# Altium footprint library 5A_BRULA,Tomas.PcbLib: 97 footprints (part 6 of 7)
Each footprint in its own frame and in the unit in brackets; x right, y up, seen from the top. Pads: shape width x height; smd on the part's side, far side on the other; paste and mask are expansions set on the pad; w line width, h text height; cw(c..) or ccw(c..) is an arc to the next point about the centre after c.
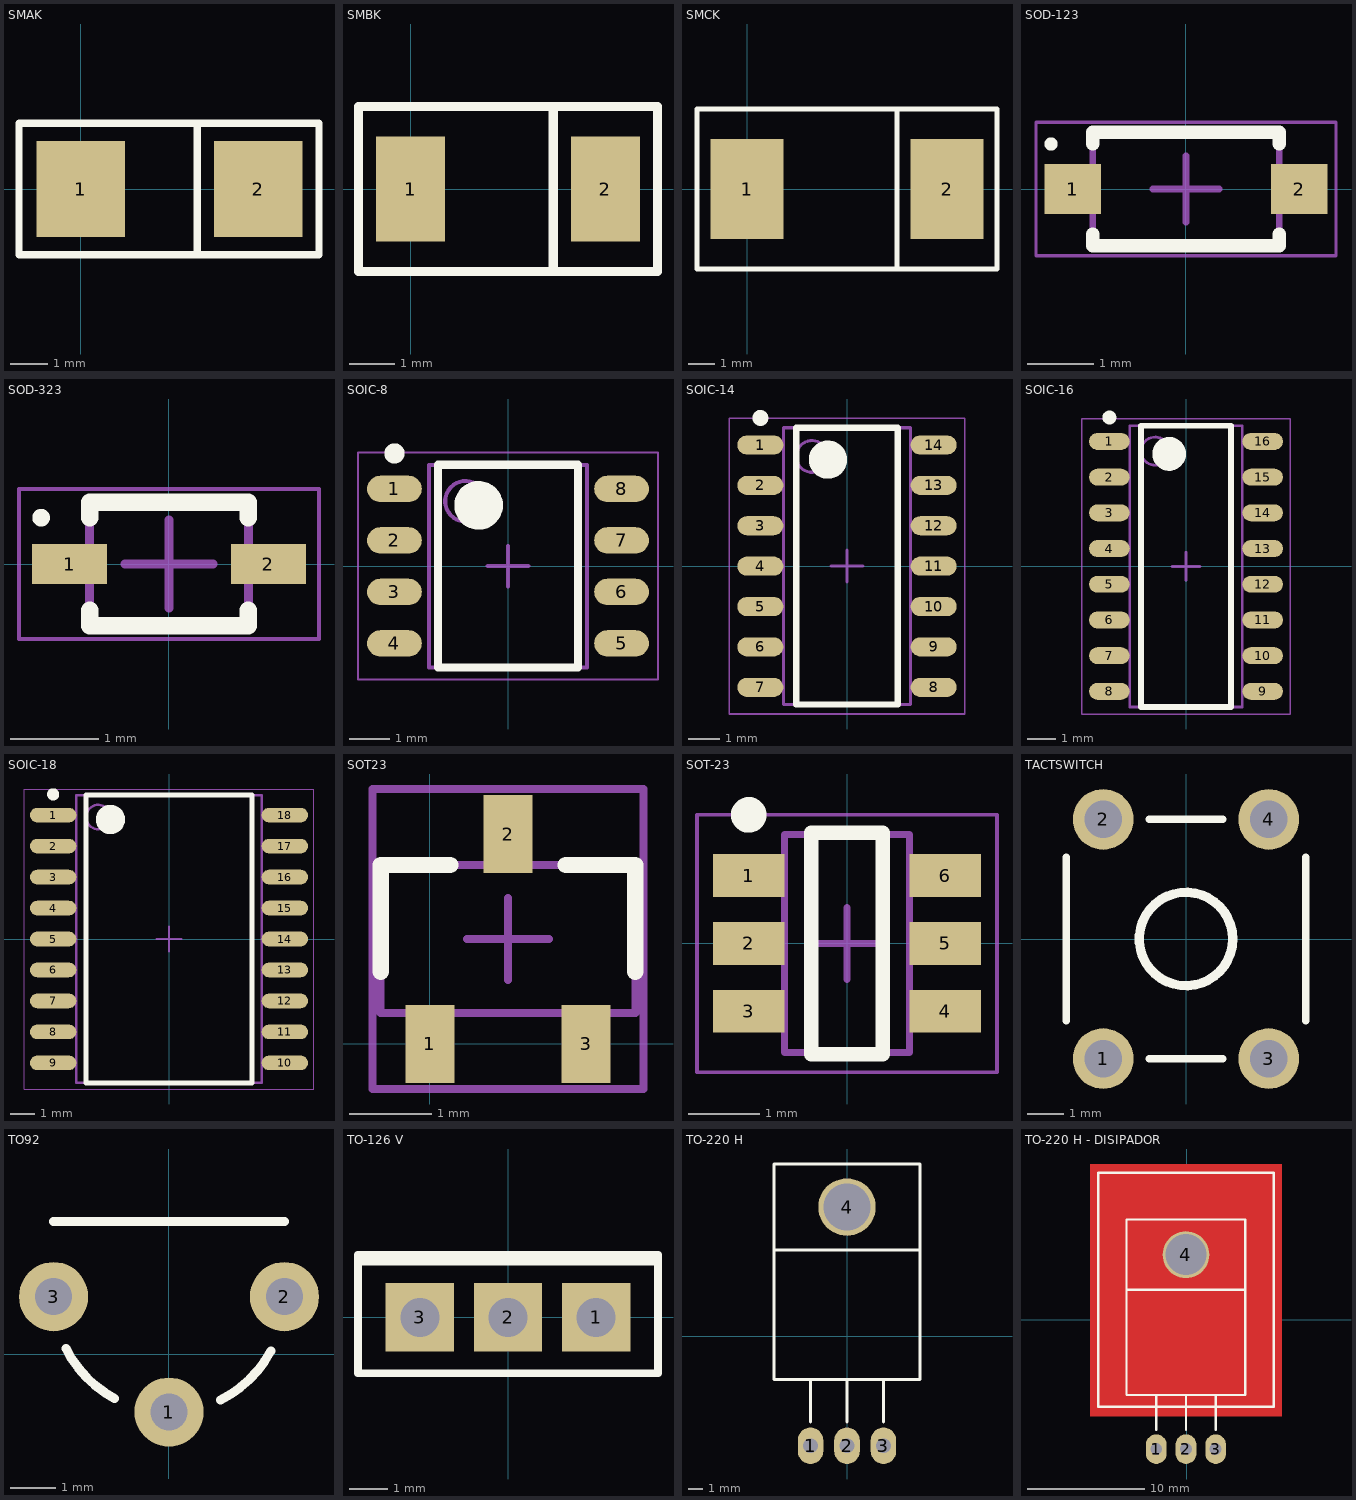
[diagram p5: the footprints below, top view; thin cyan lines are the x and y axes]

## SMAK [mm]
pads (2):
  rect 2.4x2.6 smd: 1(0,0) 2(4.8,0)
Top Overlay:
  lines w0.2: 3.149,-1.778 3.149,1.778 ; -1.677,-1.778 -1.677,1.778 6.451,1.778 6.451,-1.778 -1.677,-1.778
3D body "SMA.step": height 2.4, standoff 0, extent -0.187,-1.305 5.013,1.295

## SMBK [mm]
pads (2):
  rect 1.52x2.3 smd: 1(0,0) 2(4.27,0)
Top Overlay:
  lines w0.2: 3.127,-1.807 3.127,1.807 ; -1.143,-1.807 -1.143,1.807 5.413,1.807 5.413,-1.807 -1.143,-1.807
3D body "SMB.step": height 2.3, standoff 0, extent -0.559,-1.8 4.841,1.8

## SMCK [mil]
pads (2):
  rect 110x150 smd: 1(0,0) 2(300,0)
Top Overlay:
  lines w7.87: 225,-120 225,120 ; -75,-120 375,-120 375,120 -75,120 -75,-120
3D body "SMC.step": height 90.75, standoff 0, extent -5,-116.14 307.99,116.14

## SOD-123 [mm] "DIODO SMD"
height 1.3
pads (2):
  rect 0.85x0.75 smd: 1(-1.7,0) 2(1.7,0)
Top Overlay:
  circle w0.1: c-2.025,0.675 r0.05
  lines w0.2: -1.4,-0.675 -1.4,-0.85 1.4,-0.85 1.4,-0.675 ; -1.4,0.675 -1.4,0.85 1.4,0.85 1.4,0.675
Mechanical 13:
  lines w0.1: -1.4,-0.85 1.4,-0.85 1.4,0.85 -1.4,0.85 -1.4,-0.85
Mechanical 15:
  lines w0.05: -2.25,-1 2.25,-1 2.25,1 -2.25,1 -2.25,-1
  lines w0.1: -0.5,0 0.5,0 ; 0,-0.5 0,0.5
3D body: height 1.3, standoff 0, extent -1.4,-0.85 1.4,0.85

## SOD-323 [mm] "DIODO SMD"
height 1.1
pads (2):
  rect 0.85x0.45 smd: 1(-1.125,0) 2(1.125,0)
Top Overlay:
  circle w0.1: c-1.45,0.525 r0.05
  lines w0.2: -0.9,-0.525 -0.9,-0.7 0.9,-0.7 0.9,-0.525 ; -0.9,0.525 -0.9,0.7 0.9,0.7 0.9,0.525
Mechanical 13:
  lines w0.1: -0.9,-0.675 0.9,-0.675 0.9,0.675 -0.9,0.675 -0.9,-0.675
Mechanical 15:
  lines w0.05: -1.7,-0.85 1.7,-0.85 1.7,0.85 -1.7,0.85 -1.7,-0.85
  lines w0.1: -0.5,0 0.5,0 ; 0,-0.5 0,0.5
3D body: height 1.1, standoff 0, extent -0.9,-0.675 0.9,0.675

## SOIC-8 [mm] "SOIC-8 SMD"
height 1.71
pads (8):
  oval 1.35x0.65 smd: 1(-2.8,1.905) 2(-2.8,0.635) 3(-2.8,-0.635) 4(-2.8,-1.905) 5(2.8,-1.905) 6(2.8,-0.635) 7(2.8,0.635) 8(2.8,1.905)
Top Overlay:
  circle w0.6: c-0.725,1.5 r0.3
  circle w0.25: c-2.8,2.78 r0.125
  lines w0.2: -1.725,-2.5 1.725,-2.5 1.725,2.5 -1.725,2.5 -1.725,-2.5
Mechanical 13:
  circle w0.1: c-1.05,1.6 r0.5
  lines w0.1: -1.95,-2.5 1.95,-2.5 1.95,2.5 -1.95,2.5 -1.95,-2.5
Mechanical 15:
  lines w0.05: -3.7,-2.8 3.7,-2.8 3.7,2.8 -3.7,2.8 -3.7,-2.8
  lines w0.1: -0.5,0 0.5,0 ; 0,-0.5 0,0.5
3D body: height 1.71, standoff 0, extent -1.95,-2.5 1.95,2.5

## SOIC-14 [mm] "SOIC-14 SMD"
height 1.75
pads (14):
  oval 1.45x0.6 smd: 1(-2.725,3.81) 2(-2.725,2.54) 3(-2.725,1.27) 4(-2.725,0) 5(-2.725,-1.27) 6(-2.725,-2.54) 7(-2.725,-3.81) 8(2.725,-3.81) 9(2.725,-2.54) 10(2.725,-1.27) 11(2.725,0) 12(2.725,1.27) 13(2.725,2.54) 14(2.725,3.81)
Top Overlay:
  circle w0.25: c-2.725,4.66 r0.125
  circle w0.6: c-0.6,3.35 r0.3
  lines w0.2: -1.6,-4.35 -1.6,4.35 1.6,4.35 1.6,-4.35 -1.6,-4.35
Mechanical 13:
  circle w0.1: c-1.1,3.45 r0.5
  lines w0.1: -2,-4.35 -2,4.35 2,4.35 2,-4.35 -2,-4.35
Mechanical 15:
  lines w0.05: -3.7,-4.65 -3.7,4.65 3.7,4.65 3.7,-4.65 -3.7,-4.65
  lines w0.1: -0.5,0 0.5,0 ; 0,-0.5 0,0.5
3D body: height 1.75, standoff 0.1, extent -2,-4.35 2,4.35

## SOIC-16 [mm] "SOIC-16 SMD"
height 1.75
pads (16):
  oval 1.45x0.6 smd: 1(-2.725,4.445) 2(-2.725,3.175) 3(-2.725,1.905) 4(-2.725,0.635) 5(-2.725,-0.635) 6(-2.725,-1.905) 7(-2.725,-3.175) 8(-2.725,-4.445) 9(2.725,-4.445) 10(2.725,-3.175) 11(2.725,-1.905) 12(2.725,-0.635) 13(2.725,0.635) 14(2.725,1.905) 15(2.725,3.175) 16(2.725,4.445)
Top Overlay:
  circle w0.6: c-0.6,4 r0.3
  circle w0.25: c-2.725,5.295 r0.125
  lines w0.2: -1.6,-5 1.6,-5 1.6,5 -1.6,5 -1.6,-5
Mechanical 13:
  circle w0.1: c-1.1,4.1 r0.5
  lines w0.1: -2,-5 2,-5 2,5 -2,5 -2,-5
Mechanical 15:
  lines w0.05: -3.7,-5.25 3.7,-5.25 3.7,5.25 -3.7,5.25 -3.7,-5.25
  lines w0.1: -0.5,0 0.5,0 ; 0,-0.5 0,0.5
3D body: height 1.75, standoff 0.1, extent -2,-5 2,5

## SOIC-18 [mm] "SOIC-18 SMD"
height 2.65
pads (18):
  oval 1.9x0.6 smd: 1(-4.75,5.08) 2(-4.75,3.81) 3(-4.75,2.54) 4(-4.75,1.27) 5(-4.75,0) 6(-4.75,-1.27) 7(-4.75,-2.54) 8(-4.75,-3.81) 9(-4.75,-5.08) 10(4.75,-5.08) 11(4.75,-3.81) 12(4.75,-2.54) 13(4.75,-1.27) 14(4.75,0) 15(4.75,1.27) 16(4.75,2.54) 17(4.75,3.81) 18(4.75,5.08)
Top Overlay:
  circle w0.6: c-2.4,4.9 r0.3
  circle w0.25: c-4.75,5.93 r0.125
  lines w0.2: -3.4,-5.9 3.4,-5.9 3.4,5.9 -3.4,5.9 -3.4,-5.9
Mechanical 13:
  circle w0.1: c-2.9,5 r0.5
  lines w0.1: -3.8,-5.9 3.8,-5.9 3.8,5.9 -3.8,5.9 -3.8,-5.9
Mechanical 15:
  lines w0.05: -5.925,-6.15 5.925,-6.15 5.925,6.15 -5.925,6.15 -5.925,-6.15
  lines w0.1: -0.5,0 0.5,0 ; 0,-0.5 0,0.5
3D body: height 2.65, standoff 0.1, extent -3.8,-5.9 3.8,5.9

## SOT23 [mm]
pads (3):
  rect 0.6x0.95 smd: 1(0,0) 2(0.95,2.55) 3(1.9,0)
Top Overlay:
  lines w0.2: -0.6,0.875 -0.6,2.175 0.25,2.175 ; 1.65,2.175 2.5,2.175 2.5,0.875
Mechanical 13:
  lines w0.1: -0.6,0.375 -0.6,2.175 2.5,2.175 2.5,0.375 -0.6,0.375
Mechanical 15:
  lines w0.1: 0.45,1.275 1.45,1.275 ; 0.95,0.775 0.95,1.775 ; -0.7,-0.55 -0.7,3.1 2.6,3.1 2.6,-0.55 -0.7,-0.55
3D body "SOT23_3.step": height 1, standoff -0.1, extent -0.533,-0.254 2.467,2.884

## SOT-23 [mm] "SOT-23 SMD"
height 1.45
pads (6):
  rect 1x0.6 smd: 1(-1.375,0.95) 2(-1.375,0) 3(-1.375,-0.95) 4(1.375,-0.95) 5(1.375,0) 6(1.375,0.95)
Top Overlay:
  circle w0.25: c-1.375,1.8 r0.125
  lines w0.2: -0.5,-1.55 0.5,-1.55 0.5,1.55 -0.5,1.55 -0.5,-1.55
Mechanical 13:
  lines w0.1: -0.875,-1.525 -0.875,1.525 0.875,1.525 0.875,-1.525 -0.875,-1.525
Mechanical 15:
  lines w0.05: -2.1,-1.8 -2.1,1.8 2.1,1.8 2.1,-1.8 -2.1,-1.8
  lines w0.1: -0.5,0 0.5,0 ; 0,-0.5 0,0.5
3D body: height 1.45, standoff 0.15, extent -0.875,-1.525 0.875,1.525

## TACTSWITCH [mil]
pads (4):
  round 65 hole 40: 1(-88.58,-127.95) 2(-88.58,127.95) 3(88.58,-127.95) 4(88.58,127.95)
Top Overlay:
  circle w10: c0,0 r50
  lines w7.87: -128.11,-87.48 -128.11,87.52 ; -39.37,-128.11 39.37,-128.11 ; -39.37,128.11 39.37,128.11 ; 128.11,-87.52 128.11,87.48
3D body "TACTSWITCH.step": height 275.59, standoff -137.8, extent -120,-155.51 124.09,155.51

## TO92 [mil]
pads (3):
  round 60 hole 32: 1(0,-50) 2(100,50) 3(-100,50)
Top Overlay:
  lines w7.87: -100,115 100,115 ; -89.44,5.28 ccw(c0,50) -47.06,-38.24 ; 44.72,-39.44 ccw(c0,50) 88.24,2.94
3D body "User Library-TO-92D.step": height 314.96, standoff -118.98, extent -109.74,-60.85 109.74,110

## TO-126 V [mil]
pads (3):
  rect 70x70 hole 40: 1(90.16,0) 2(0,0) 3(-90.16,0)
Top Overlay:
  lines w7.87: -153.54,57.09 153.54,57.09 ; -153.54,-57.09 -153.54,64.09 153.54,64.09 153.54,-57.09 -153.54,-57.09
3D body "User Library-2SB649A (TO-126 MOD) v3.step": height 551.18, standoff -118.11, extent -157.54,-53.3 157.42,53

## TO-220 H [mil]
pads (4):
  oval 70x100 hole 40: 1(-100,-300) 2(0,-300) 3(100,-300)
  round 157.48 hole 127.95: 4(0,354.33)
Top Overlay:
  lines w7.87: -200,236.22 200,236.22 ; -100,-235 -100,-118.11 ; 0,-235 0,-118.11 ; 100,-235 100,-118.11 ; -200,-118.11 -200,472.44 200,472.44 200,-118.11 -200,-118.11
3D body "TO220 H.STEP": height 175.2, standoff -70.28, extent -200,-307.53 200,451.53

## TO-220 H - DISIPADOR [mil]
pads (4):
  oval 70x100 hole 40: 1(-102.87,-435) 2(-2.87,-435) 3(97.13,-435)
  round 157.48 hole 137.8: 4(-2.87,219.33)
Top Layer:
  pour cut-out: -325.08,-324.13 319.02,-324.13 319.61,524.29 -325.08,524.29
Top Overlay:
  lines w7.87: -202.87,101.22 197.13,101.22 ; -102.87,-370 -102.87,-253.11 ; -2.87,-370 -2.87,-253.11 ; 97.13,-370 97.13,-253.11 ; -298.15,-292.48 -298.15,494.92 292.4,494.92 292.4,-292.48 -298.15,-292.48 ; -202.87,-253.11 197.13,-253.11 197.13,337.44 -202.87,337.44 -202.87,-253.11
3D body "TO220 H.STEP": height 175.2, standoff -70.28, extent -202.87,-442.53 197.13,316.53